# EAGLE library part GA144_NEW (library ga144)
Parallel Processing for Embedded Systems The GA144 measures just 1cm x 1cm. It integrates 144 F18A computers in an 18 x 8 array. # Each of its F18A computers can perform a basic ALU function in about 1.5 nanoseconds while only consuming about 7 picojoules. http://greenarraychips.com/ library GA144 eagle : http://esaid.free.fr/
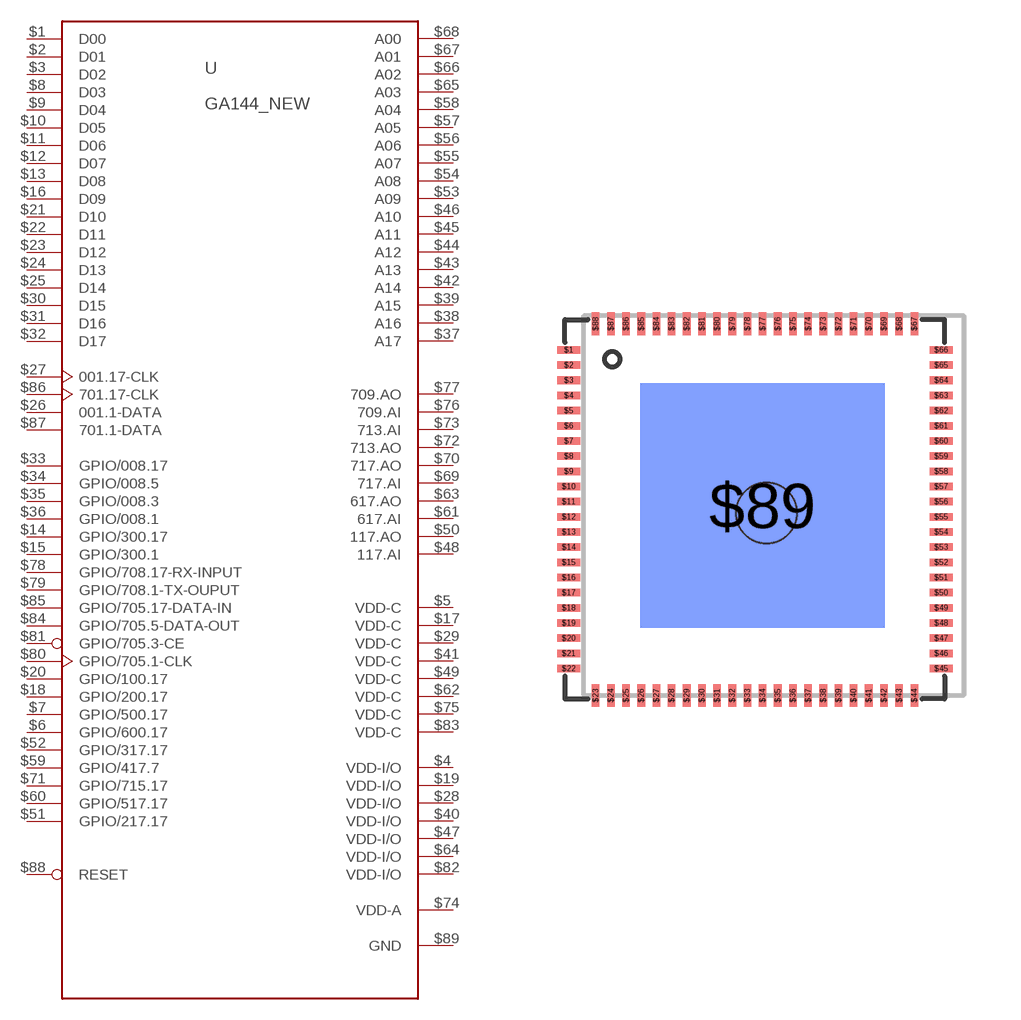
[diagram p0: symbol with the pads of QFN88-0.4MM; footprint QFN88-0.4MM]

Designator prefix -

## GA144_NEW  [QFN88-0.4MM]
$1  D00
$2  D01
$3  D02
$4  VDD-I/O  pwr
$5  VDD-C  pwr
$6  GPIO/600.17
$7  GPIO/500.17
$8  D03
$9  D04
$10  D05
$11  D06
$12  D07
$13  D08
$14  GPIO/300.17
$15  GPIO/300.1
$16  D09
$17  VDD-C  pwr
$18  GPIO/200.17
$19  VDD-I/O
$20  GPIO/100.17
$21  D10
$22  D11
$23  D12
$24  D13
$25  D14
$26  001.1-DATA
$27  001.17-CLK  out
$28  VDD-I/O
$29  VDD-C
$30  D15
$31  D16
$32  D17
$33  GPIO/008.17
$34  GPIO/008.5
$35  GPIO/008.3
$36  GPIO/008.1
$37  A17  out
$38  A16  out
$39  A15  out
$40  VDD-I/O
$41  VDD-C
$42  A14  out
$43  A13  out
$44  A12  out
$45  A11  out
$46  A10  out
$47  VDD-I/O
$48  117.AI  in
$49  VDD-C
$50  117.AO  out
$51  GPIO/217.17
$52  GPIO/317.17
$53  A09  out
$54  A08  out
$55  A07  out
$56  A06  out
$57  A05  out
$58  A04  out
$59  GPIO/417.7
$60  GPIO/517.17
$61  617.AI  in
$62  VDD-C
$63  617.AO  out
$64  VDD-I/O
$65  A03  out
$66  A02  out
$67  A01  out
$68  A00  out
$69  717.AI  in
$70  717.AO  out
$71  GPIO/715.17
$72  713.AO  out
$73  713.AI  in
$74  VDD-A  pwr
$75  VDD-C
$76  709.AI  in
$77  709.AO  out
$78  GPIO/708.17-RX-INPUT  in
$79  GPIO/708.1-TX-OUPUT  out
$80  GPIO/705.1-CLK  out
$81  GPIO/705.3-CE  out
$82  VDD-I/O
$83  VDD-C
$84  GPIO/705.5-DATA-OUT  out
$85  GPIO/705.17-DATA-IN  in
$86  701.17-CLK  out
$87  701.1-DATA
$88  RESET
$89  GND  pwr

## Footprint QFN88-0.4MM (pad centres in mm)
** 88-pin QFN ** initially designed for GA144 | 0.4mm pitch | 10mm*10mm |
smd 0.6 x 0.2: $1 -5.71,4.2; $2 -5.71,3.8; $3 -5.71,3.4; $4 -5.71,3; $5 -5.71,2.6; $6 -5.71,2.2; $7 -5.71,1.8; $8 -5.71,1.4; $9 -5.71,1; $10 -5.71,0.6; $11 -5.71,0.2; $12 -5.71,-0.2; $13 -5.71,-0.6; $14 -5.71,-1; $15 -5.71,-1.4; $16 -5.71,-1.8; $17 -5.71,-2.2; $18 -5.71,-2.6; $19 -5.71,-3; $20 -5.71,-3.4; $21 -5.71,-3.8; $22 -5.71,-4.2; $45 4.11,-4.2; $46 4.11,-3.8; $47 4.11,-3.4; $48 4.11,-3; $49 4.11,-2.6; $50 4.11,-2.2; $51 4.11,-1.8; $52 4.11,-1.4; $53 4.11,-1; $54 4.11,-0.6; $55 4.11,-0.2; $56 4.11,0.2; $57 4.11,0.6; $58 4.11,1; $59 4.11,1.4; $60 4.11,1.8; $61 4.11,2.2; $62 4.11,2.6; $63 4.11,3; $64 4.11,3.4; $65 4.11,3.8; $66 4.11,4.2
smd 0.2 x 0.6: $23 -5,-4.91; $24 -4.6,-4.91; $25 -4.2,-4.91; $26 -3.8,-4.91; $27 -3.4,-4.91; $28 -3,-4.91; $29 -2.6,-4.91; $30 -2.2,-4.91; $31 -1.8,-4.91; $32 -1.4,-4.91; $33 -1,-4.91; $34 -0.6,-4.91; $35 -0.2,-4.91; $36 0.2,-4.91; $37 0.6,-4.91; $38 1,-4.91; $39 1.4,-4.91; $40 1.8,-4.91; $41 2.2,-4.91; $42 2.6,-4.91; $43 3,-4.91; $44 3.4,-4.91; $67 3.4,4.89; $68 3,4.89; $69 2.6,4.89; $70 2.2,4.89; $71 1.8,4.89; $72 1.4,4.89; $73 1,4.89; $74 0.6,4.89; $75 0.2,4.89; $76 -0.2,4.89; $77 -0.6,4.89; $78 -1,4.89; $79 -1.4,4.89; $80 -1.8,4.89; $81 -2.2,4.89; $82 -2.6,4.89; $83 -3,4.89; $84 -3.4,4.89; $85 -3.8,4.89; $86 -4.2,4.89; $87 -4.6,4.89; $88 -5,4.89
smd 6.452 x 6.452 bottom: $89 -0.6,0.1
hole 1.6 at -0.5,-0.1